# Altium schematic symbol library Dip Switches.SchLib: 12 symbols
Pins are listed as number, name and electrical type; pins without a type are passive.

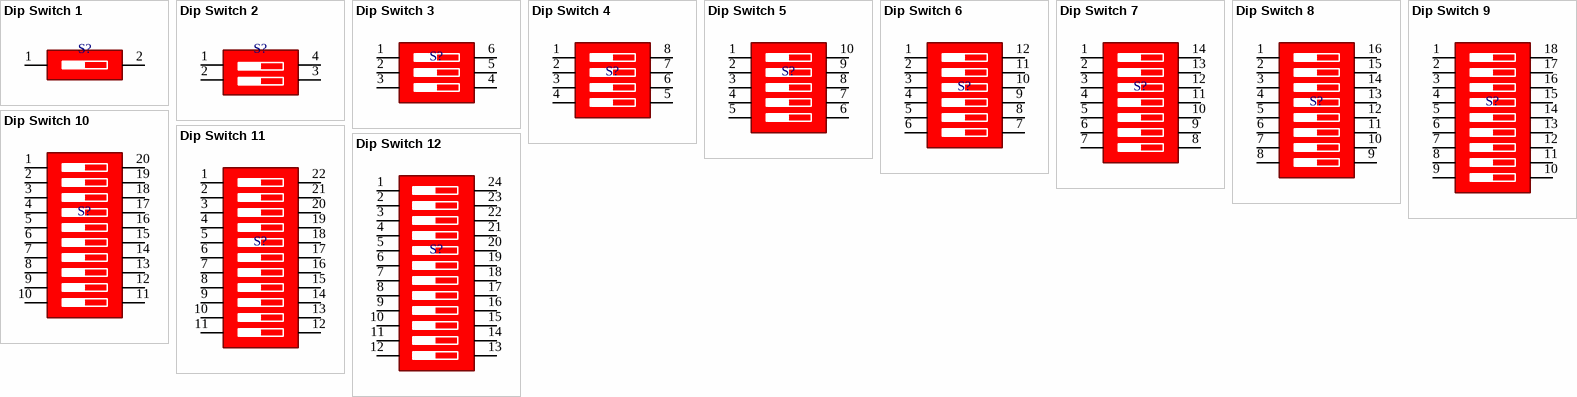
[diagram p0: symbols Dip Switch 1 to Dip Switch 12]

## Dip Switch 1
designator S?
1 BIT Dip Switch; DatasheetVersion: 2022
pins: 1, 2

## Dip Switch 2
designator S?
2 BIT Dip Switch; DatasheetVersion: 2022
pins: 1, 2, 3, 4

## Dip Switch 3
designator S?
3 BIT Dip Switch; DatasheetVersion: 2022
pins: 1, 2, 3, 4, 5, 6

## Dip Switch 4
designator S?
4 BIT Dip Switch; DatasheetVersion: 2022
pins: 1, 2, 3, 4, 5, 6, 7, 8

## Dip Switch 5
designator S?
5 BIT Dip Switch; DatasheetVersion: 2022
pins: 1, 2, 3, 4, 5, 6, 7, 8, 9, 10

## Dip Switch 6
designator S?
6 BIT Dip Switch; DatasheetVersion: 2022
pins: 1, 2, 3, 4, 5, 6, 7, 8, 9, 10, 11, 12

## Dip Switch 7
designator S?
7 BIT Dip Switch; DatasheetVersion: 2022
pins: 1, 2, 3, 4, 5, 6, 7, 8 18, 9, 10, 11, 12, 13, 14

## Dip Switch 8
designator S?
8 BIT Dip Switch; DatasheetVersion: 2022
pins: 1, 2, 3, 4, 5, 6, 7, 8, 9, 10, 11, 12, 13, 14, 15, 16

## Dip Switch 9
designator S?
9 BIT Dip Switch; DatasheetVersion: 2022
pins: 1, 2, 3, 4, 5, 6, 7, 8, 9, 10, 11, 12, 13, 14, 15, 16, 17, 18

## Dip Switch 10
designator S?
10 BIT Dip Switch; DatasheetVersion: 2022
pins: 1, 2, 3, 4, 5, 6, 7, 8, 9, 10, 11, 12, 13, 14, 15, 16, 17, 18, 19, 20

## Dip Switch 11
designator S?
11 BIT Dip Switch; DatasheetVersion: 2022
pins: 1, 2, 3, 4, 5, 6, 7, 8, 9, 10, 11, 12, 13, 14, 15, 16, 17, 18, 19, 20, 21, 22

## Dip Switch 12
designator S?
12 BIT Dip Switch; DatasheetVersion: 2022
pins: 1, 2, 3, 4, 5, 6, 7, 8, 9, 10, 11, 12, 13, 14, 15, 16, 17, 18, 19, 20, 21, 22, 23, 24